# Altium integrated library ST Microcontroller 8-Bit.IntLib: 1326 symbols (part 4 of 45)
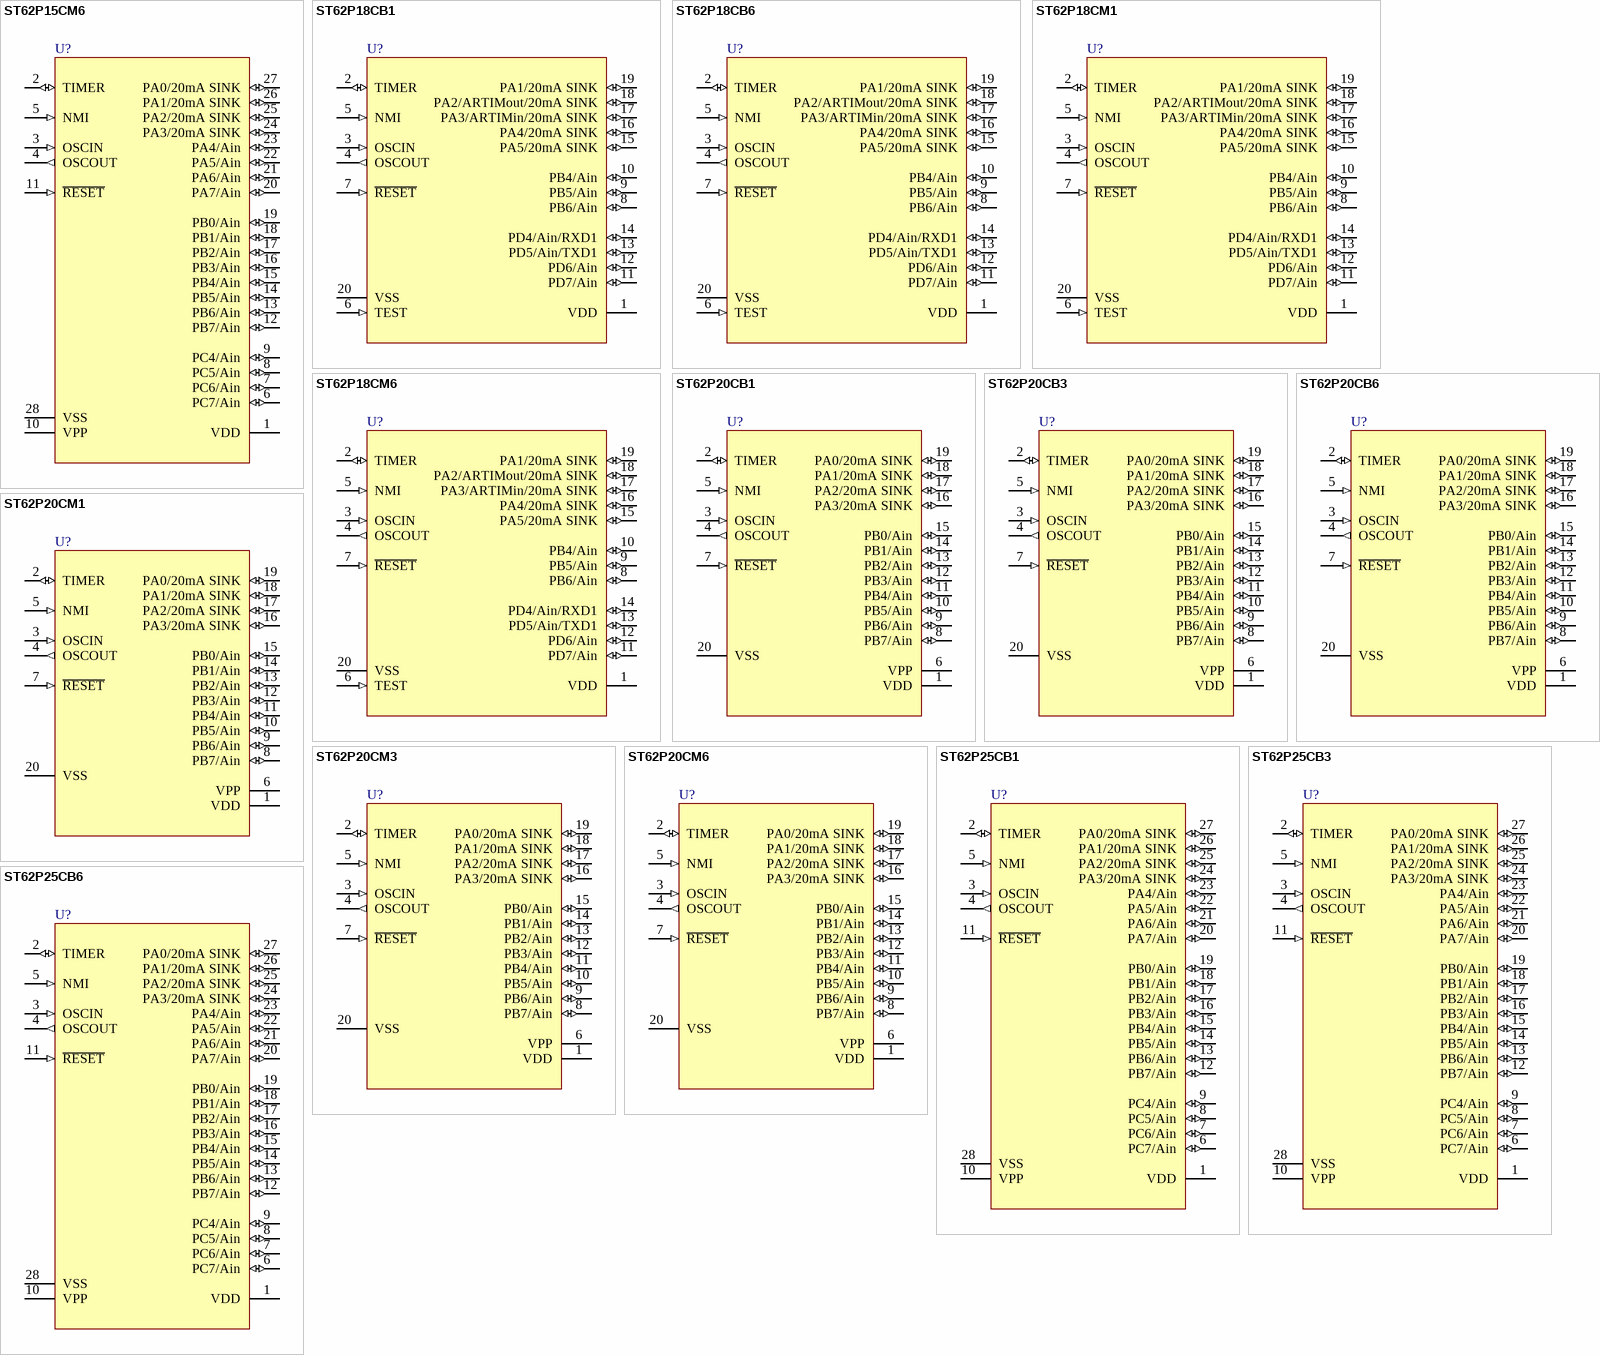
[diagram p170: symbols ST62P15CM6 to ST62P25CB6]

## ST62P20CB3
designator U?
8-Bit FASTROM MCU with A/D Converter, Two Timers, Oscillator Safeguard and Safe Reset, 20-Pin PDIP, Automotive; Published: 26-May-2004; LatestRevisionDate: 06-Jun-2005; LatestRevisionNote: Stylized 3D Model Added.; DatasheetVersion: rev3.3, Oct-2003; PackageVersion: Jul-2003; PackageReference: PDIP20; Publisher: Altium Limited; PackageDescription: DIP; 20 Leads; Row Spacing 7.62 mm; Pitch 2.54 mm; Code_JEDEC: MS-001-AD; ComponentLink1Description: Manufacturer Link; ComponentLink1URL: http://www.st.com/; ComponentLink2Description: Datasheet; ComponentLink2URL: http://www.st.com/stonline/products/literature/ds/2349/st6220c.pdf
footprint PDIP20 (DIP; 20 Leads; Row Spacing 7.62 mm; Pitch 2.54 mm)
3D model PDIP20 (DIP; 20 Leads; Row Spacing 7.62 mm; Pitch 2.54 mm)
pins: 1 VDD (power), 2 TIMER (io), 3 OSCIN (in), 4 OSCOUT (out), 5 NMI (in), 6 VPP (power), 7 ~{RESET} (in), 8 PB7/Ain (io), 9 PB6/Ain (io), 10 PB5/Ain (io), 11 PB4/Ain (io), 12 PB3/Ain (io), 13 PB2/Ain (io), 14 PB1/Ain (io), 15 PB0/Ain (io), 16 PA3/20mA SINK (io), 17 PA2/20mA SINK (io), 18 PA1/20mA SINK (io), 19 PA0/20mA SINK (io), 20 VSS (power)

## ST62P20CB6
designator U?
8-Bit FASTROM MCU with A/D Converter, Two Timers, Oscillator Safeguard and Safe Reset, 20-Pin PDIP, Industrial; Published: 26-May-2004; LatestRevisionDate: 06-Jun-2005; LatestRevisionNote: Stylized 3D Model Added.; DatasheetVersion: rev3.3, Oct-2003; PackageVersion: Jul-2003; PackageReference: PDIP20; Publisher: Altium Limited; PackageDescription: DIP; 20 Leads; Row Spacing 7.62 mm; Pitch 2.54 mm; Code_JEDEC: MS-001-AD; ComponentLink1Description: Manufacturer Link; ComponentLink1URL: http://www.st.com/; ComponentLink2Description: Datasheet; ComponentLink2URL: http://www.st.com/stonline/products/literature/ds/2349/st6220c.pdf
footprint PDIP20 (DIP; 20 Leads; Row Spacing 7.62 mm; Pitch 2.54 mm)
3D model PDIP20 (DIP; 20 Leads; Row Spacing 7.62 mm; Pitch 2.54 mm)
pins: 1 VDD (power), 2 TIMER (io), 3 OSCIN (in), 4 OSCOUT (out), 5 NMI (in), 6 VPP (power), 7 ~{RESET} (in), 8 PB7/Ain (io), 9 PB6/Ain (io), 10 PB5/Ain (io), 11 PB4/Ain (io), 12 PB3/Ain (io), 13 PB2/Ain (io), 14 PB1/Ain (io), 15 PB0/Ain (io), 16 PA3/20mA SINK (io), 17 PA2/20mA SINK (io), 18 PA1/20mA SINK (io), 19 PA0/20mA SINK (io), 20 VSS (power)

## ST62P20CM1
designator U?
8-Bit FASTROM MCU with A/D Converter, Two Timers, Oscillator Safeguard and Safe Reset, 20-Pin SOIC, Standard; Published: 26-May-2004; LatestRevisionDate: 13-Apr-2006; LatestRevisionNote: IPC-7351 Footprint Added.; DatasheetVersion: rev3.3, Oct-2003; PackageVersion: Jul-2001; PackageReference: SO20; Publisher: Altium Limited; PackageDescription: 20-Pin Plastic Small Outline Integrated Circuit 1.27 mm Pitch; Code_JEDEC: MS-013-AC; Code_IPC: SOIC127P1030-20; ComponentLink1Description: Manufacturer Link; ComponentLink1URL: http://www.st.com/; ComponentLink2Description: Datasheet; ComponentLink2URL: http://www.st.com/stonline/products/literature/ds/2349/st6220c.pdf
footprint SO20_N (SOIC, 20-Leads, Body 12.8x7.5mm, Pitch 1.27mm, IPC Medium Density)
footprint SO20_L (SOIC, 20-Leads, Body 12.8x7.5mm, Pitch 1.27mm, IPC High Density)
footprint SO20_M (SOIC, 20-Leads, Body 12.8x7.5mm, Pitch 1.27mm, IPC Low Density)
3D model SO20 (20-Pin Plastic Small Outline Integrated Circuit 1.27 mm Pitch)
pins: 1 VDD (power), 2 TIMER (io), 3 OSCIN (in), 4 OSCOUT (out), 5 NMI (in), 6 VPP (power), 7 ~{RESET} (in), 8 PB7/Ain (io), 9 PB6/Ain (io), 10 PB5/Ain (io), 11 PB4/Ain (io), 12 PB3/Ain (io), 13 PB2/Ain (io), 14 PB1/Ain (io), 15 PB0/Ain (io), 16 PA3/20mA SINK (io), 17 PA2/20mA SINK (io), 18 PA1/20mA SINK (io), 19 PA0/20mA SINK (io), 20 VSS (power)

## ST62P20CM3
designator U?
8-Bit FASTROM MCU with A/D Converter, Two Timers, Oscillator Safeguard and Safe Reset, 20-Pin SOIC, Automotive; Published: 26-May-2004; LatestRevisionDate: 13-Apr-2006; LatestRevisionNote: IPC-7351 Footprint Added.; DatasheetVersion: rev3.3, Oct-2003; PackageVersion: Jul-2001; PackageReference: SO20; Publisher: Altium Limited; PackageDescription: 20-Pin Plastic Small Outline Integrated Circuit 1.27 mm Pitch; Code_JEDEC: MS-013-AC; Code_IPC: SOIC127P1030-20; ComponentLink1Description: Manufacturer Link; ComponentLink1URL: http://www.st.com/; ComponentLink2Description: Datasheet; ComponentLink2URL: http://www.st.com/stonline/products/literature/ds/2349/st6220c.pdf
footprint SO20_N (SOIC, 20-Leads, Body 12.8x7.5mm, Pitch 1.27mm, IPC Medium Density)
footprint SO20_L (SOIC, 20-Leads, Body 12.8x7.5mm, Pitch 1.27mm, IPC High Density)
footprint SO20_M (SOIC, 20-Leads, Body 12.8x7.5mm, Pitch 1.27mm, IPC Low Density)
3D model SO20 (20-Pin Plastic Small Outline Integrated Circuit 1.27 mm Pitch)
pins: 1 VDD (power), 2 TIMER (io), 3 OSCIN (in), 4 OSCOUT (out), 5 NMI (in), 6 VPP (power), 7 ~{RESET} (in), 8 PB7/Ain (io), 9 PB6/Ain (io), 10 PB5/Ain (io), 11 PB4/Ain (io), 12 PB3/Ain (io), 13 PB2/Ain (io), 14 PB1/Ain (io), 15 PB0/Ain (io), 16 PA3/20mA SINK (io), 17 PA2/20mA SINK (io), 18 PA1/20mA SINK (io), 19 PA0/20mA SINK (io), 20 VSS (power)

## ST62P20CM6
designator U?
8-Bit FASTROM MCU with A/D Converter, Two Timers, Oscillator Safeguard and Safe Reset, 20-Pin SOIC, Industrial; Published: 26-May-2004; LatestRevisionDate: 13-Apr-2006; LatestRevisionNote: IPC-7351 Footprint Added.; DatasheetVersion: rev3.3, Oct-2003; PackageVersion: Jul-2001; PackageReference: SO20; Publisher: Altium Limited; PackageDescription: 20-Pin Plastic Small Outline Integrated Circuit 1.27 mm Pitch; Code_JEDEC: MS-013-AC; Code_IPC: SOIC127P1030-20; ComponentLink1Description: Manufacturer Link; ComponentLink1URL: http://www.st.com/; ComponentLink2Description: Datasheet; ComponentLink2URL: http://www.st.com/stonline/products/literature/ds/2349/st6220c.pdf
footprint SO20_N (SOIC, 20-Leads, Body 12.8x7.5mm, Pitch 1.27mm, IPC Medium Density)
footprint SO20_L (SOIC, 20-Leads, Body 12.8x7.5mm, Pitch 1.27mm, IPC High Density)
footprint SO20_M (SOIC, 20-Leads, Body 12.8x7.5mm, Pitch 1.27mm, IPC Low Density)
3D model SO20 (20-Pin Plastic Small Outline Integrated Circuit 1.27 mm Pitch)
pins: 1 VDD (power), 2 TIMER (io), 3 OSCIN (in), 4 OSCOUT (out), 5 NMI (in), 6 VPP (power), 7 ~{RESET} (in), 8 PB7/Ain (io), 9 PB6/Ain (io), 10 PB5/Ain (io), 11 PB4/Ain (io), 12 PB3/Ain (io), 13 PB2/Ain (io), 14 PB1/Ain (io), 15 PB0/Ain (io), 16 PA3/20mA SINK (io), 17 PA2/20mA SINK (io), 18 PA1/20mA SINK (io), 19 PA0/20mA SINK (io), 20 VSS (power)

## ST62P25CB1
designator U?
8-Bit FASTROM MCU with A/D Converter, Two Timers, Oscillator Safeguard and Safe Reset, 28-Pin PDIP, Standard; Published: 26-May-2004; LatestRevisionDate: 06-Jun-2005; LatestRevisionNote: Stylized 3D Model Added.; DatasheetVersion: rev3.3, Oct-2003; PackageVersion: Oct-2003; PackageReference: DIP28; Publisher: Altium Limited; PackageDescription: DIP; 28 Leads; Row Spacing 15.24 mm; Pitch 2.54 mm; Code_JEDEC: MS-011-AB; ComponentLink1Description: Manufacturer Link; ComponentLink1URL: http://www.st.com/; ComponentLink2Description: Datasheet; ComponentLink2URL: http://www.st.com/stonline/products/literature/ds/5266/st6225c.pdf
footprint DIP28 (DIP; 28 Leads; Row Spacing 15.24 mm; Pitch 2.54 mm)
3D model DIP28 (DIP; 28 Leads; Row Spacing 15.24 mm; Pitch 2.54 mm)
pins: 1 VDD (power), 2 TIMER (io), 3 OSCIN (in), 4 OSCOUT (out), 5 NMI (in), 6 PC7/Ain (io), 7 PC6/Ain (io), 8 PC5/Ain (io), 9 PC4/Ain (io), 10 VPP (power), 11 ~{RESET} (in), 12 PB7/Ain (io), 13 PB6/Ain (io), 14 PB5/Ain (io), 15 PB4/Ain (io), 16 PB3/Ain (io), 17 PB2/Ain (io), 18 PB1/Ain (io), 19 PB0/Ain (io), 20 PA7/Ain (io), 21 PA6/Ain (io), 22 PA5/Ain (io), 23 PA4/Ain (io), 24 PA3/20mA SINK (io), 25 PA2/20mA SINK (io), 26 PA1/20mA SINK (io), 27 PA0/20mA SINK (io), 28 VSS (power)

## ST62P25CB3
designator U?
8-Bit FASTROM MCU with A/D Converter, Two Timers, Oscillator Safeguard and Safe Reset, 28-Pin PDIP, Automotive; Published: 26-May-2004; LatestRevisionDate: 06-Jun-2005; LatestRevisionNote: Stylized 3D Model Added.; DatasheetVersion: rev3.3, Oct-2003; PackageVersion: Oct-2003; PackageReference: DIP28; Publisher: Altium Limited; PackageDescription: DIP; 28 Leads; Row Spacing 15.24 mm; Pitch 2.54 mm; Code_JEDEC: MS-011-AB; ComponentLink1Description: Manufacturer Link; ComponentLink1URL: http://www.st.com/; ComponentLink2Description: Datasheet; ComponentLink2URL: http://www.st.com/stonline/products/literature/ds/5266/st6225c.pdf
footprint DIP28 (DIP; 28 Leads; Row Spacing 15.24 mm; Pitch 2.54 mm)
3D model DIP28 (DIP; 28 Leads; Row Spacing 15.24 mm; Pitch 2.54 mm)
pins: 1 VDD (power), 2 TIMER (io), 3 OSCIN (in), 4 OSCOUT (out), 5 NMI (in), 6 PC7/Ain (io), 7 PC6/Ain (io), 8 PC5/Ain (io), 9 PC4/Ain (io), 10 VPP (power), 11 ~{RESET} (in), 12 PB7/Ain (io), 13 PB6/Ain (io), 14 PB5/Ain (io), 15 PB4/Ain (io), 16 PB3/Ain (io), 17 PB2/Ain (io), 18 PB1/Ain (io), 19 PB0/Ain (io), 20 PA7/Ain (io), 21 PA6/Ain (io), 22 PA5/Ain (io), 23 PA4/Ain (io), 24 PA3/20mA SINK (io), 25 PA2/20mA SINK (io), 26 PA1/20mA SINK (io), 27 PA0/20mA SINK (io), 28 VSS (power)

## ST62P25CB6
designator U?
8-Bit FASTROM MCU with A/D Converter, Two Timers, Oscillator Safeguard and Safe Reset, 28-Pin PDIP, Industrial; Published: 26-May-2004; LatestRevisionDate: 06-Jun-2005; LatestRevisionNote: Stylized 3D Model Added.; DatasheetVersion: rev3.3, Oct-2003; PackageVersion: Oct-2003; PackageReference: DIP28; Publisher: Altium Limited; PackageDescription: DIP; 28 Leads; Row Spacing 15.24 mm; Pitch 2.54 mm; Code_JEDEC: MS-011-AB; ComponentLink1Description: Manufacturer Link; ComponentLink1URL: http://www.st.com/; ComponentLink2Description: Datasheet; ComponentLink2URL: http://www.st.com/stonline/products/literature/ds/5266/st6225c.pdf
footprint DIP28 (DIP; 28 Leads; Row Spacing 15.24 mm; Pitch 2.54 mm)
3D model DIP28 (DIP; 28 Leads; Row Spacing 15.24 mm; Pitch 2.54 mm)
pins: 1 VDD (power), 2 TIMER (io), 3 OSCIN (in), 4 OSCOUT (out), 5 NMI (in), 6 PC7/Ain (io), 7 PC6/Ain (io), 8 PC5/Ain (io), 9 PC4/Ain (io), 10 VPP (power), 11 ~{RESET} (in), 12 PB7/Ain (io), 13 PB6/Ain (io), 14 PB5/Ain (io), 15 PB4/Ain (io), 16 PB3/Ain (io), 17 PB2/Ain (io), 18 PB1/Ain (io), 19 PB0/Ain (io), 20 PA7/Ain (io), 21 PA6/Ain (io), 22 PA5/Ain (io), 23 PA4/Ain (io), 24 PA3/20mA SINK (io), 25 PA2/20mA SINK (io), 26 PA1/20mA SINK (io), 27 PA0/20mA SINK (io), 28 VSS (power)

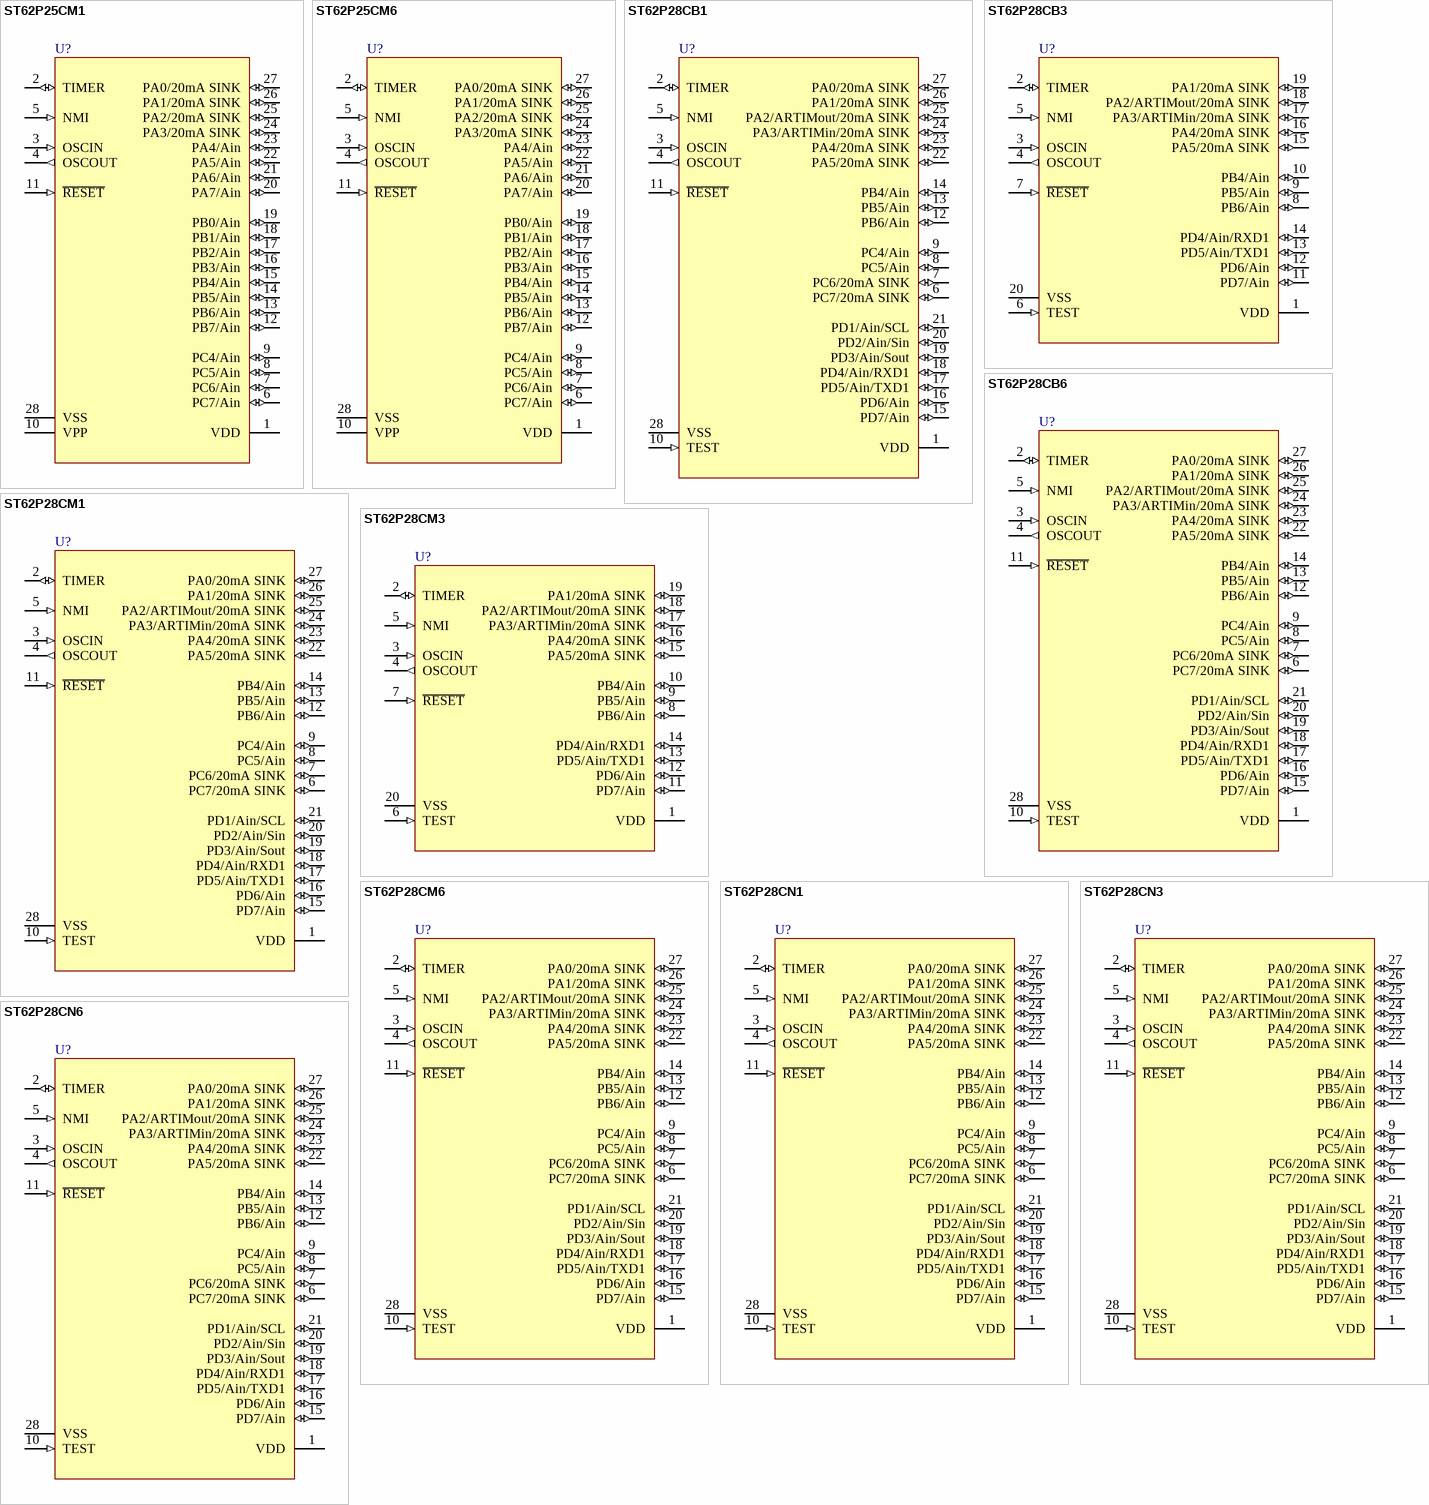
[diagram p9: symbols ST62P25CM1 to ST62P28CN6]

## ST62P25CM1
designator U?
8-Bit FASTROM MCU with A/D Converter, Two Timers, Oscillator Safeguard and Safe Reset, 28-Pin SOIC, Standard; Published: 26-May-2004; LatestRevisionDate: 13-Apr-2006; LatestRevisionNote: IPC-7351 Footprint Added.; DatasheetVersion: rev3.3, Oct-2003; PackageVersion: Jul-2001; PackageReference: SO28; Publisher: Altium Limited; PackageDescription: 28-Pin Plastic Small Outline Integrated Circuit 1.27 mm Pitch; ComponentLink1Description: Manufacturer Link; ComponentLink1URL: http://www.st.com/; ComponentLink2Description: Datasheet; ComponentLink2URL: http://www.st.com/stonline/products/literature/ds/5266/st6225c.pdf
footprint SO28_N (SOIC, 28-Leads, Body 17.9x7.5mm, Pitch 1.27mm, IPC Medium Density)
footprint SO28_L (SOIC, 28-Leads, Body 17.9x7.5mm, Pitch 1.27mm, IPC High Density)
footprint SO28_M (SOIC, 28-Leads, Body 17.9x7.5mm, Pitch 1.27mm, IPC Low Density)
3D model SO28 (28-Pin Plastic Small Outline Integrated Circuit 1.27 mm Pitch)
pins: 1 VDD (power), 2 TIMER (io), 3 OSCIN (in), 4 OSCOUT (out), 5 NMI (in), 6 PC7/Ain (io), 7 PC6/Ain (io), 8 PC5/Ain (io), 9 PC4/Ain (io), 10 VPP (power), 11 ~{RESET} (in), 12 PB7/Ain (io), 13 PB6/Ain (io), 14 PB5/Ain (io), 15 PB4/Ain (io), 16 PB3/Ain (io), 17 PB2/Ain (io), 18 PB1/Ain (io), 19 PB0/Ain (io), 20 PA7/Ain (io), 21 PA6/Ain (io), 22 PA5/Ain (io), 23 PA4/Ain (io), 24 PA3/20mA SINK (io), 25 PA2/20mA SINK (io), 26 PA1/20mA SINK (io), 27 PA0/20mA SINK (io), 28 VSS (power)

## ST62P25CM6
designator U?
8-Bit FASTROM MCU with A/D Converter, Two Timers, Oscillator Safeguard and Safe Reset, 28-Pin SOIC, Industrial; Published: 26-May-2004; LatestRevisionDate: 13-Apr-2006; LatestRevisionNote: IPC-7351 Footprint Added.; DatasheetVersion: rev3.3, Oct-2003; PackageVersion: Jul-2001; PackageReference: SO28; Publisher: Altium Limited; PackageDescription: 28-Pin Plastic Small Outline Integrated Circuit 1.27 mm Pitch; ComponentLink1Description: Manufacturer Link; ComponentLink1URL: http://www.st.com/; ComponentLink2Description: Datasheet; ComponentLink2URL: http://www.st.com/stonline/products/literature/ds/5266/st6225c.pdf
footprint SO28_N (SOIC, 28-Leads, Body 17.9x7.5mm, Pitch 1.27mm, IPC Medium Density)
footprint SO28_L (SOIC, 28-Leads, Body 17.9x7.5mm, Pitch 1.27mm, IPC High Density)
footprint SO28_M (SOIC, 28-Leads, Body 17.9x7.5mm, Pitch 1.27mm, IPC Low Density)
3D model SO28 (28-Pin Plastic Small Outline Integrated Circuit 1.27 mm Pitch)
pins: 1 VDD (power), 2 TIMER (io), 3 OSCIN (in), 4 OSCOUT (out), 5 NMI (in), 6 PC7/Ain (io), 7 PC6/Ain (io), 8 PC5/Ain (io), 9 PC4/Ain (io), 10 VPP (power), 11 ~{RESET} (in), 12 PB7/Ain (io), 13 PB6/Ain (io), 14 PB5/Ain (io), 15 PB4/Ain (io), 16 PB3/Ain (io), 17 PB2/Ain (io), 18 PB1/Ain (io), 19 PB0/Ain (io), 20 PA7/Ain (io), 21 PA6/Ain (io), 22 PA5/Ain (io), 23 PA4/Ain (io), 24 PA3/20mA SINK (io), 25 PA2/20mA SINK (io), 26 PA1/20mA SINK (io), 27 PA0/20mA SINK (io), 28 VSS (power)

## ST62P28CB1
designator U?
8-Bit ROM MCU with A/D Converter, Auto-Reload Timer, UART, OSG, Safe Reset , 28-Pin PDIP, Standard; Published: 26-May-2004; LatestRevisionDate: 06-Jun-2005; LatestRevisionNote: Stylized 3D Model Added.; DatasheetVersion: rev2.9, Jul-2001; PackageVersion: Oct-2003; PackageReference: DIP28; Publisher: Altium Limited; PackageDescription: DIP; 28 Leads; Row Spacing 15.24 mm; Pitch 2.54 mm; Code_JEDEC: MS-011-AB; ComponentLink1Description: Manufacturer Link; ComponentLink1URL: http://www.st.com/; ComponentLink2Description: Datasheet; ComponentLink2URL: http://www.st.com/stonline/products/literature/ds/5269/st6228c.pdf
footprint DIP28 (DIP; 28 Leads; Row Spacing 15.24 mm; Pitch 2.54 mm)
3D model DIP28 (DIP; 28 Leads; Row Spacing 15.24 mm; Pitch 2.54 mm)
pins: 1 VDD (power), 2 TIMER (io), 3 OSCIN (in), 4 OSCOUT (out), 5 NMI (in), 6 PC7/20mA SINK (io), 7 PC6/20mA SINK (io), 8 PC5/Ain (io), 9 PC4/Ain (io), 10 TEST (in), 11 ~{RESET} (in), 12 PB6/Ain (io), 13 PB5/Ain (io), 14 PB4/Ain (io), 15 PD7/Ain (io), 16 PD6/Ain (io), 17 PD5/Ain/TXD1 (io), 18 PD4/Ain/RXD1 (io), 19 PD3/Ain/Sout (io), 20 PD2/Ain/Sin (io), 21 PD1/Ain/SCL (io), 22 PA5/20mA SINK (io), 23 PA4/20mA SINK (io), 24 PA3/ARTIMin/20mA SINK (io), 25 PA2/ARTIMout/20mA SINK (io), 26 PA1/20mA SINK (io), 27 PA0/20mA SINK (io), 28 VSS (power)

## ST62P28CB3
designator U?
8-Bit FASTROM MCU with A/D Converter, Auto-Reload Timer, UART, OSG, Safe Reset, 20-Pin PDIP, Automotive; Published: 26-May-2004; LatestRevisionDate: 06-Jun-2005; LatestRevisionNote: Stylized 3D Model Added.; DatasheetVersion: rev2.6, Jul-2001; PackageVersion: Jul-2003; PackageReference: PDIP20; Publisher: Altium Limited; PackageDescription: DIP; 20 Leads; Row Spacing 7.62 mm; Pitch 2.54 mm; Code_JEDEC: MS-001-AD; ComponentLink1Description: Manufacturer Link; ComponentLink1URL: http://www.st.com/; ComponentLink2Description: Datasheet; ComponentLink2URL: http://www.st.com/stonline/products/literature/ds/5269/st6228c.pdf
footprint PDIP20 (DIP; 20 Leads; Row Spacing 7.62 mm; Pitch 2.54 mm)
3D model PDIP20 (DIP; 20 Leads; Row Spacing 7.62 mm; Pitch 2.54 mm)
pins: 1 VDD (power), 2 TIMER (io), 3 OSCIN (in), 4 OSCOUT (out), 5 NMI (in), 6 TEST (in), 7 ~{RESET} (in), 8 PB6/Ain (io), 9 PB5/Ain (io), 10 PB4/Ain (io), 11 PD7/Ain (io), 12 PD6/Ain (io), 13 PD5/Ain/TXD1 (io), 14 PD4/Ain/RXD1 (io), 15 PA5/20mA SINK (io), 16 PA4/20mA SINK (io), 17 PA3/ARTIMin/20mA SINK (io), 18 PA2/ARTIMout/20mA SINK (io), 19 PA1/20mA SINK (io), 20 VSS (power)

## ST62P28CB6
designator U?
8-Bit ROM MCU with A/D Converter, Auto-Reload Timer, UART, OSG, Safe Reset , 28-Pin PDIP, Industrial; Published: 26-May-2004; LatestRevisionDate: 06-Jun-2005; LatestRevisionNote: Stylized 3D Model Added.; DatasheetVersion: rev2.9, Jul-2001; PackageVersion: Oct-2003; PackageReference: DIP28; Publisher: Altium Limited; PackageDescription: DIP; 28 Leads; Row Spacing 15.24 mm; Pitch 2.54 mm; Code_JEDEC: MS-011-AB; ComponentLink1Description: Manufacturer Link; ComponentLink1URL: http://www.st.com/; ComponentLink2Description: Datasheet; ComponentLink2URL: http://www.st.com/stonline/products/literature/ds/5269/st6228c.pdf
footprint DIP28 (DIP; 28 Leads; Row Spacing 15.24 mm; Pitch 2.54 mm)
3D model DIP28 (DIP; 28 Leads; Row Spacing 15.24 mm; Pitch 2.54 mm)
pins: 1 VDD (power), 2 TIMER (io), 3 OSCIN (in), 4 OSCOUT (out), 5 NMI (in), 6 PC7/20mA SINK (io), 7 PC6/20mA SINK (io), 8 PC5/Ain (io), 9 PC4/Ain (io), 10 TEST (in), 11 ~{RESET} (in), 12 PB6/Ain (io), 13 PB5/Ain (io), 14 PB4/Ain (io), 15 PD7/Ain (io), 16 PD6/Ain (io), 17 PD5/Ain/TXD1 (io), 18 PD4/Ain/RXD1 (io), 19 PD3/Ain/Sout (io), 20 PD2/Ain/Sin (io), 21 PD1/Ain/SCL (io), 22 PA5/20mA SINK (io), 23 PA4/20mA SINK (io), 24 PA3/ARTIMin/20mA SINK (io), 25 PA2/ARTIMout/20mA SINK (io), 26 PA1/20mA SINK (io), 27 PA0/20mA SINK (io), 28 VSS (power)

## ST62P28CM1
designator U?
8-Bit ROM MCU with A/D Converter, Auto-Reload Timer, UART, OSG, Safe Reset , 28-Pin SOIC, Standard; Published: 26-May-2004; LatestRevisionDate: 13-Apr-2006; LatestRevisionNote: IPC-7351 Footprint Added.; DatasheetVersion: rev2.9, Jul-2001; PackageVersion: Jul-2001; PackageReference: SO28; Publisher: Altium Limited; PackageDescription: 28-Pin Plastic Small Outline Integrated Circuit 1.27 mm Pitch; ComponentLink1Description: Manufacturer Link; ComponentLink1URL: http://www.st.com/; ComponentLink2Description: Datasheet; ComponentLink2URL: http://www.st.com/stonline/products/literature/ds/5269/st6228c.pdf
footprint SO28_N (SOIC, 28-Leads, Body 17.9x7.5mm, Pitch 1.27mm, IPC Medium Density)
footprint SO28_L (SOIC, 28-Leads, Body 17.9x7.5mm, Pitch 1.27mm, IPC High Density)
footprint SO28_M (SOIC, 28-Leads, Body 17.9x7.5mm, Pitch 1.27mm, IPC Low Density)
3D model SO28 (28-Pin Plastic Small Outline Integrated Circuit 1.27 mm Pitch)
pins: 1 VDD (power), 2 TIMER (io), 3 OSCIN (in), 4 OSCOUT (out), 5 NMI (in), 6 PC7/20mA SINK (io), 7 PC6/20mA SINK (io), 8 PC5/Ain (io), 9 PC4/Ain (io), 10 TEST (in), 11 ~{RESET} (in), 12 PB6/Ain (io), 13 PB5/Ain (io), 14 PB4/Ain (io), 15 PD7/Ain (io), 16 PD6/Ain (io), 17 PD5/Ain/TXD1 (io), 18 PD4/Ain/RXD1 (io), 19 PD3/Ain/Sout (io), 20 PD2/Ain/Sin (io), 21 PD1/Ain/SCL (io), 22 PA5/20mA SINK (io), 23 PA4/20mA SINK (io), 24 PA3/ARTIMin/20mA SINK (io), 25 PA2/ARTIMout/20mA SINK (io), 26 PA1/20mA SINK (io), 27 PA0/20mA SINK (io), 28 VSS (power)

## ST62P28CM3
designator U?
8-Bit FASTROM MCU with A/D Converter, Auto-Reload Timer, UART, OSG, Safe Reset, 20-Pin SOIC, Automotive; Published: 26-May-2004; LatestRevisionDate: 13-Apr-2006; LatestRevisionNote: IPC-7351 Footprint Added.; DatasheetVersion: rev2.6, Jul-2001; PackageVersion: Jul-2001; PackageReference: SO20; Publisher: Altium Limited; PackageDescription: 20-Pin Plastic Small Outline Integrated Circuit 1.27 mm Pitch; Code_JEDEC: MS-013-AC; Code_IPC: SOIC127P1030-20; ComponentLink1Description: Manufacturer Link; ComponentLink1URL: http://www.st.com/; ComponentLink2Description: Datasheet; ComponentLink2URL: http://www.st.com/stonline/products/literature/ds/5269/st6228c.pdf
footprint SO20_N (SOIC, 20-Leads, Body 12.8x7.5mm, Pitch 1.27mm, IPC Medium Density)
footprint SO20_L (SOIC, 20-Leads, Body 12.8x7.5mm, Pitch 1.27mm, IPC High Density)
footprint SO20_M (SOIC, 20-Leads, Body 12.8x7.5mm, Pitch 1.27mm, IPC Low Density)
3D model SO20 (20-Pin Plastic Small Outline Integrated Circuit 1.27 mm Pitch)
pins: 1 VDD (power), 2 TIMER (io), 3 OSCIN (in), 4 OSCOUT (out), 5 NMI (in), 6 TEST (in), 7 ~{RESET} (in), 8 PB6/Ain (io), 9 PB5/Ain (io), 10 PB4/Ain (io), 11 PD7/Ain (io), 12 PD6/Ain (io), 13 PD5/Ain/TXD1 (io), 14 PD4/Ain/RXD1 (io), 15 PA5/20mA SINK (io), 16 PA4/20mA SINK (io), 17 PA3/ARTIMin/20mA SINK (io), 18 PA2/ARTIMout/20mA SINK (io), 19 PA1/20mA SINK (io), 20 VSS (power)

## ST62P28CM6
designator U?
8-Bit ROM MCU with A/D Converter, Auto-Reload Timer, UART, OSG, Safe Reset , 28-Pin SOIC, Industrial; Published: 26-May-2004; LatestRevisionDate: 13-Apr-2006; LatestRevisionNote: IPC-7351 Footprint Added.; DatasheetVersion: rev2.9, Jul-2001; PackageVersion: Jul-2001; PackageReference: SO28; Publisher: Altium Limited; PackageDescription: 28-Pin Plastic Small Outline Integrated Circuit 1.27 mm Pitch; ComponentLink1Description: Manufacturer Link; ComponentLink1URL: http://www.st.com/; ComponentLink2Description: Datasheet; ComponentLink2URL: http://www.st.com/stonline/products/literature/ds/5269/st6228c.pdf
footprint SO28_N (SOIC, 28-Leads, Body 17.9x7.5mm, Pitch 1.27mm, IPC Medium Density)
footprint SO28_L (SOIC, 28-Leads, Body 17.9x7.5mm, Pitch 1.27mm, IPC High Density)
footprint SO28_M (SOIC, 28-Leads, Body 17.9x7.5mm, Pitch 1.27mm, IPC Low Density)
3D model SO28 (28-Pin Plastic Small Outline Integrated Circuit 1.27 mm Pitch)
pins: 1 VDD (power), 2 TIMER (io), 3 OSCIN (in), 4 OSCOUT (out), 5 NMI (in), 6 PC7/20mA SINK (io), 7 PC6/20mA SINK (io), 8 PC5/Ain (io), 9 PC4/Ain (io), 10 TEST (in), 11 ~{RESET} (in), 12 PB6/Ain (io), 13 PB5/Ain (io), 14 PB4/Ain (io), 15 PD7/Ain (io), 16 PD6/Ain (io), 17 PD5/Ain/TXD1 (io), 18 PD4/Ain/RXD1 (io), 19 PD3/Ain/Sout (io), 20 PD2/Ain/Sin (io), 21 PD1/Ain/SCL (io), 22 PA5/20mA SINK (io), 23 PA4/20mA SINK (io), 24 PA3/ARTIMin/20mA SINK (io), 25 PA2/ARTIMout/20mA SINK (io), 26 PA1/20mA SINK (io), 27 PA0/20mA SINK (io), 28 VSS (power)

## ST62P28CN1
designator U?
8-Bit ROM MCU with A/D Converter, Auto-Reload Timer, UART, OSG, Safe Reset , 28-Pin SSOP, Standard; Published: 26-May-2004; LatestRevisionDate: 06-Jun-2005; LatestRevisionNote: Stylized 3D Model Added.; DatasheetVersion: rev2.9, Jul-2001; PackageVersion: Jul-2001; PackageReference: SSOP28W; Publisher: Altium Limited; PackageDescription: SSOP, Plastic; 28 Leads; Body Width 5.3 mm; Pitch 0.65 mm; ComponentLink1Description: Manufacturer Link; ComponentLink1URL: http://www.st.com/; ComponentLink2Description: Datasheet; ComponentLink2URL: http://www.st.com/stonline/products/literature/ds/5269/st6228c.pdf
footprint SSOP28W (SSOP, Plastic; 28 Leads; Body Width 5.3 mm; Pitch 0.65 mm)
3D model SSOP28W (SSOP, Plastic; 28 Leads; Body Width 5.3 mm; Pitch 0.65 mm)
pins: 1 VDD (power), 2 TIMER (io), 3 OSCIN (in), 4 OSCOUT (out), 5 NMI (in), 6 PC7/20mA SINK (io), 7 PC6/20mA SINK (io), 8 PC5/Ain (io), 9 PC4/Ain (io), 10 TEST (in), 11 ~{RESET} (in), 12 PB6/Ain (io), 13 PB5/Ain (io), 14 PB4/Ain (io), 15 PD7/Ain (io), 16 PD6/Ain (io), 17 PD5/Ain/TXD1 (io), 18 PD4/Ain/RXD1 (io), 19 PD3/Ain/Sout (io), 20 PD2/Ain/Sin (io), 21 PD1/Ain/SCL (io), 22 PA5/20mA SINK (io), 23 PA4/20mA SINK (io), 24 PA3/ARTIMin/20mA SINK (io), 25 PA2/ARTIMout/20mA SINK (io), 26 PA1/20mA SINK (io), 27 PA0/20mA SINK (io), 28 VSS (power)

## ST62P28CN3
designator U?
8-Bit ROM MCU with A/D Converter, Auto-Reload Timer, UART, OSG, Safe Reset , 28-Pin SSOP, Automotive; Published: 26-May-2004; LatestRevisionDate: 06-Jun-2005; LatestRevisionNote: Stylized 3D Model Added.; DatasheetVersion: rev2.9, Jul-2001; PackageVersion: Jul-2001; PackageReference: SSOP28W; Publisher: Altium Limited; PackageDescription: SSOP, Plastic; 28 Leads; Body Width 5.3 mm; Pitch 0.65 mm; ComponentLink1Description: Manufacturer Link; ComponentLink1URL: http://www.st.com/; ComponentLink2Description: Datasheet; ComponentLink2URL: http://www.st.com/stonline/products/literature/ds/5269/st6228c.pdf
footprint SSOP28W (SSOP, Plastic; 28 Leads; Body Width 5.3 mm; Pitch 0.65 mm)
3D model SSOP28W (SSOP, Plastic; 28 Leads; Body Width 5.3 mm; Pitch 0.65 mm)
pins: 1 VDD (power), 2 TIMER (io), 3 OSCIN (in), 4 OSCOUT (out), 5 NMI (in), 6 PC7/20mA SINK (io), 7 PC6/20mA SINK (io), 8 PC5/Ain (io), 9 PC4/Ain (io), 10 TEST (in), 11 ~{RESET} (in), 12 PB6/Ain (io), 13 PB5/Ain (io), 14 PB4/Ain (io), 15 PD7/Ain (io), 16 PD6/Ain (io), 17 PD5/Ain/TXD1 (io), 18 PD4/Ain/RXD1 (io), 19 PD3/Ain/Sout (io), 20 PD2/Ain/Sin (io), 21 PD1/Ain/SCL (io), 22 PA5/20mA SINK (io), 23 PA4/20mA SINK (io), 24 PA3/ARTIMin/20mA SINK (io), 25 PA2/ARTIMout/20mA SINK (io), 26 PA1/20mA SINK (io), 27 PA0/20mA SINK (io), 28 VSS (power)

## ST62P28CN6
designator U?
8-Bit ROM MCU with A/D Converter, Auto-Reload Timer, UART, OSG, Safe Reset , 28-Pin SSOP, Industrial; Published: 26-May-2004; LatestRevisionDate: 06-Jun-2005; LatestRevisionNote: Stylized 3D Model Added.; DatasheetVersion: rev2.9, Jul-2001; PackageVersion: Jul-2001; PackageReference: SSOP28W; Publisher: Altium Limited; PackageDescription: SSOP, Plastic; 28 Leads; Body Width 5.3 mm; Pitch 0.65 mm; ComponentLink1Description: Manufacturer Link; ComponentLink1URL: http://www.st.com/; ComponentLink2Description: Datasheet; ComponentLink2URL: http://www.st.com/stonline/products/literature/ds/5269/st6228c.pdf
footprint SSOP28W (SSOP, Plastic; 28 Leads; Body Width 5.3 mm; Pitch 0.65 mm)
3D model SSOP28W (SSOP, Plastic; 28 Leads; Body Width 5.3 mm; Pitch 0.65 mm)
pins: 1 VDD (power), 2 TIMER (io), 3 OSCIN (in), 4 OSCOUT (out), 5 NMI (in), 6 PC7/20mA SINK (io), 7 PC6/20mA SINK (io), 8 PC5/Ain (io), 9 PC4/Ain (io), 10 TEST (in), 11 ~{RESET} (in), 12 PB6/Ain (io), 13 PB5/Ain (io), 14 PB4/Ain (io), 15 PD7/Ain (io), 16 PD6/Ain (io), 17 PD5/Ain/TXD1 (io), 18 PD4/Ain/RXD1 (io), 19 PD3/Ain/Sout (io), 20 PD2/Ain/Sin (io), 21 PD1/Ain/SCL (io), 22 PA5/20mA SINK (io), 23 PA4/20mA SINK (io), 24 PA3/ARTIMin/20mA SINK (io), 25 PA2/ARTIMout/20mA SINK (io), 26 PA1/20mA SINK (io), 27 PA0/20mA SINK (io), 28 VSS (power)

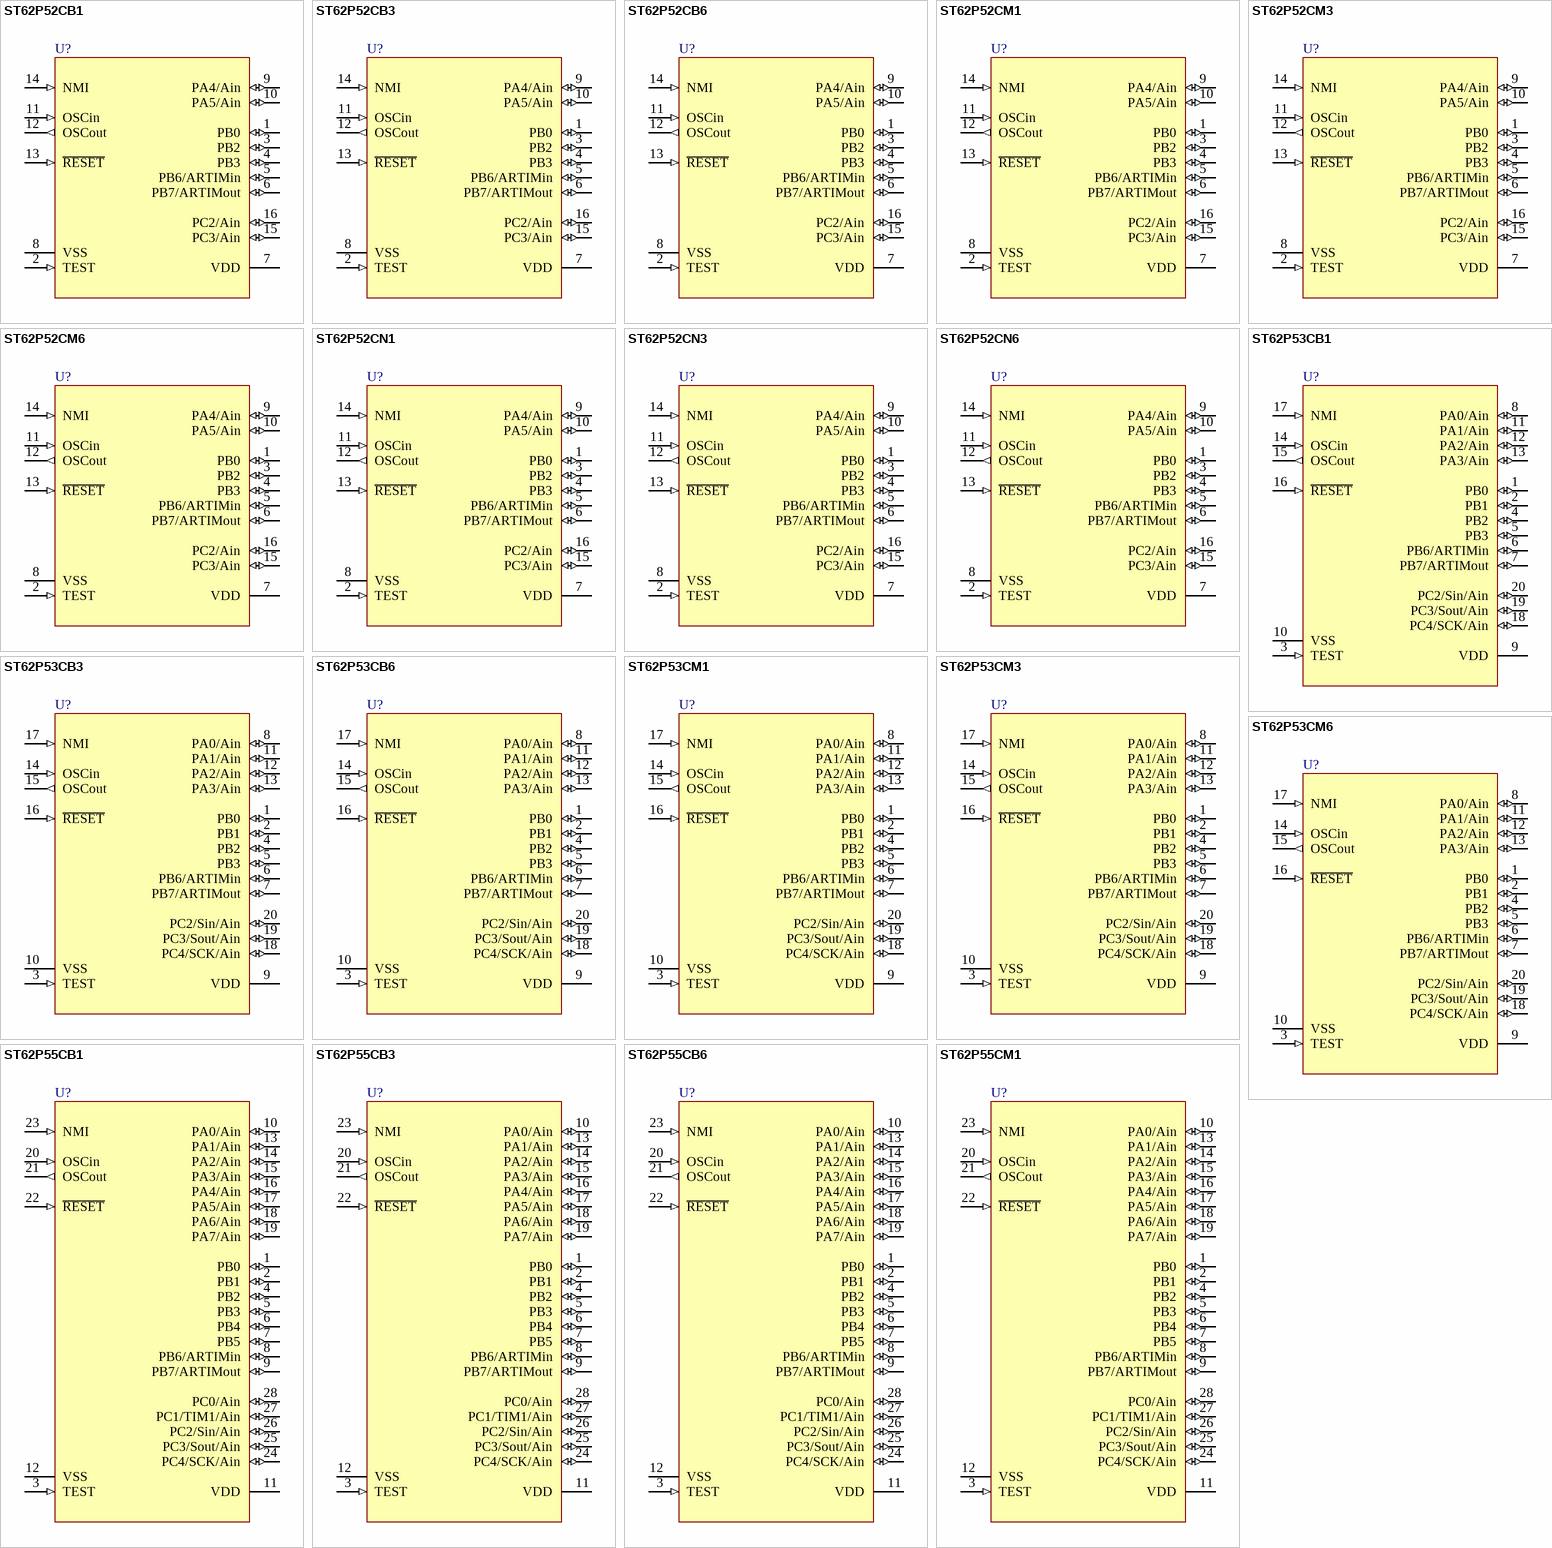
[diagram p10: symbols ST62P52CB1 to ST62P55CM1]

## ST62P52CB1
designator U?
8-Bit FASTROM MCU with A/D Converter, Safe Reset, Auto-Reload Timer and EEPROM, 16-Pin PDIP, Standard; Note: Pins 3 to 5 can also sink 20mA for direct LED or TRIAC drive.; Published: 26-May-2004; LatestRevisionDate: 06-Jun-2005; LatestRevisionNote: Stylized 3D Model Added.; DatasheetVersion: rev3.0, Feb-2002; PackageVersion: Dec-2003; PackageReference: PDIP16; Publisher: Altium Limited; PackageDescription: DIP; 16 Leads; Row Spacing 7.62 mm; Pitch 2.54 mm; ComponentLink1Description: Manufacturer Link; ComponentLink1URL: http://www.st.com/; ComponentLink2Description: Datasheet; ComponentLink2URL: http://www.st.com/stonline/products/literature/ds/6217/st6252c.pdf
footprint PDIP16 (DIP; 16 Leads; Row Spacing 7.62 mm; Pitch 2.54 mm)
3D model PDIP16 (DIP; 16 Leads; Row Spacing 7.62 mm; Pitch 2.54 mm)
pins: 1 PB0 (io), 2 TEST (in), 3 PB2 (io), 4 PB3 (io), 5 PB6/ARTIMin (io), 6 PB7/ARTIMout (io), 7 VDD (power), 8 VSS (power), 9 PA4/Ain (io), 10 PA5/Ain (io), 11 OSCin (in), 12 OSCout (out), 13 ~{RESET} (in), 14 NMI (in), 15 PC3/Ain (io), 16 PC2/Ain (io)

## ST62P52CB3
designator U?
8-Bit FASTROM MCU with A/D Converter, Safe Reset, Auto-Reload Timer and EEPROM, 16-Pin PDIP, Automotive; Note: Pins 3 to 5 can also sink 20mA for direct LED or TRIAC drive.; Published: 26-May-2004; LatestRevisionDate: 06-Jun-2005; LatestRevisionNote: Stylized 3D Model Added.; DatasheetVersion: rev3.0, Feb-2002; PackageVersion: Dec-2003; PackageReference: PDIP16; Publisher: Altium Limited; PackageDescription: DIP; 16 Leads; Row Spacing 7.62 mm; Pitch 2.54 mm; ComponentLink1Description: Manufacturer Link; ComponentLink1URL: http://www.st.com/; ComponentLink2Description: Datasheet; ComponentLink2URL: http://www.st.com/stonline/products/literature/ds/6217/st6252c.pdf
footprint PDIP16 (DIP; 16 Leads; Row Spacing 7.62 mm; Pitch 2.54 mm)
3D model PDIP16 (DIP; 16 Leads; Row Spacing 7.62 mm; Pitch 2.54 mm)
pins: 1 PB0 (io), 2 TEST (in), 3 PB2 (io), 4 PB3 (io), 5 PB6/ARTIMin (io), 6 PB7/ARTIMout (io), 7 VDD (power), 8 VSS (power), 9 PA4/Ain (io), 10 PA5/Ain (io), 11 OSCin (in), 12 OSCout (out), 13 ~{RESET} (in), 14 NMI (in), 15 PC3/Ain (io), 16 PC2/Ain (io)

## ST62P52CB6
designator U?
8-Bit FASTROM MCU with A/D Converter, Safe Reset, Auto-Reload Timer and EEPROM, 16-Pin PDIP, Industrial; Note: Pins 3 to 5 can also sink 20mA for direct LED or TRIAC drive.; Published: 26-May-2004; LatestRevisionDate: 06-Jun-2005; LatestRevisionNote: Stylized 3D Model Added.; DatasheetVersion: rev3.0, Feb-2002; PackageVersion: Dec-2003; PackageReference: PDIP16; Publisher: Altium Limited; PackageDescription: DIP; 16 Leads; Row Spacing 7.62 mm; Pitch 2.54 mm; ComponentLink1Description: Manufacturer Link; ComponentLink1URL: http://www.st.com/; ComponentLink2Description: Datasheet; ComponentLink2URL: http://www.st.com/stonline/products/literature/ds/6217/st6252c.pdf
footprint PDIP16 (DIP; 16 Leads; Row Spacing 7.62 mm; Pitch 2.54 mm)
3D model PDIP16 (DIP; 16 Leads; Row Spacing 7.62 mm; Pitch 2.54 mm)
pins: 1 PB0 (io), 2 TEST (in), 3 PB2 (io), 4 PB3 (io), 5 PB6/ARTIMin (io), 6 PB7/ARTIMout (io), 7 VDD (power), 8 VSS (power), 9 PA4/Ain (io), 10 PA5/Ain (io), 11 OSCin (in), 12 OSCout (out), 13 ~{RESET} (in), 14 NMI (in), 15 PC3/Ain (io), 16 PC2/Ain (io)

## ST62P52CM1
designator U?
8-Bit FASTROM MCU with A/D Converter, Safe Reset, Auto-Reload Timer and EEPROM, 16-Pin SOIC, Standard; Note: Pins 3 to 5 can also sink 20mA for direct LED or TRIAC drive.; Published: 26-May-2004; LatestRevisionDate: 13-Apr-2006; LatestRevisionNote: IPC-7351 Footprint Added.; DatasheetVersion: rev3.0, Feb-2002; PackageVersion: Apr-1998; PackageReference: SO16W; Publisher: Altium Limited; PackageDescription: 16-Pin Small Outline Integrated Circuit 1.27 mm Pitch; Code_JEDEC: MS-013-AA; Code_IPC: SOIC127P1030-16; ComponentLink1Description: Manufacturer Link; ComponentLink1URL: http://www.st.com/; ComponentLink2Description: Datasheet; ComponentLink2URL: http://www.st.com/stonline/products/literature/ds/6217/st6252c.pdf
footprint SO16W_N (SOIC, 16-Leads, Body 10.3x7.5mm, Pitch 1.27mm, IPC Medium Density)
footprint SO16W_L (SOIC, 16-Leads, Body 10.3x7.5mm, Pitch 1.27mm, IPC High Density)
footprint SO16W_M (SOIC, 16-Leads, Body 10.3x7.5mm, Pitch 1.27mm, IPC Low Density)
3D model SO16W (16-Pin Small Outline Integrated Circuit 1.27 mm Pitch)
pins: 1 PB0 (io), 2 TEST (in), 3 PB2 (io), 4 PB3 (io), 5 PB6/ARTIMin (io), 6 PB7/ARTIMout (io), 7 VDD (power), 8 VSS (power), 9 PA4/Ain (io), 10 PA5/Ain (io), 11 OSCin (in), 12 OSCout (out), 13 ~{RESET} (in), 14 NMI (in), 15 PC3/Ain (io), 16 PC2/Ain (io)

## ST62P52CM3
designator U?
8-Bit FASTROM MCU with A/D Converter, Safe Reset, Auto-Reload Timer and EEPROM, 16-Pin SOIC, Automotive; Note: Pins 3 to 5 can also sink 20mA for direct LED or TRIAC drive.; Published: 26-May-2004; LatestRevisionDate: 13-Apr-2006; LatestRevisionNote: IPC-7351 Footprint Added.; DatasheetVersion: rev3.0, Feb-2002; PackageVersion: Apr-1998; PackageReference: SO16W; Publisher: Altium Limited; PackageDescription: 16-Pin Small Outline Integrated Circuit 1.27 mm Pitch; Code_JEDEC: MS-013-AA; Code_IPC: SOIC127P1030-16; ComponentLink1Description: Manufacturer Link; ComponentLink1URL: http://www.st.com/; ComponentLink2Description: Datasheet; ComponentLink2URL: http://www.st.com/stonline/products/literature/ds/6217/st6252c.pdf
footprint SO16W_N (SOIC, 16-Leads, Body 10.3x7.5mm, Pitch 1.27mm, IPC Medium Density)
footprint SO16W_L (SOIC, 16-Leads, Body 10.3x7.5mm, Pitch 1.27mm, IPC High Density)
footprint SO16W_M (SOIC, 16-Leads, Body 10.3x7.5mm, Pitch 1.27mm, IPC Low Density)
3D model SO16W (16-Pin Small Outline Integrated Circuit 1.27 mm Pitch)
pins: 1 PB0 (io), 2 TEST (in), 3 PB2 (io), 4 PB3 (io), 5 PB6/ARTIMin (io), 6 PB7/ARTIMout (io), 7 VDD (power), 8 VSS (power), 9 PA4/Ain (io), 10 PA5/Ain (io), 11 OSCin (in), 12 OSCout (out), 13 ~{RESET} (in), 14 NMI (in), 15 PC3/Ain (io), 16 PC2/Ain (io)

## ST62P52CM6
designator U?
8-Bit FASTROM MCU with A/D Converter, Safe Reset, Auto-Reload Timer and EEPROM, 16-Pin SOIC, Industrial; Note: Pins 3 to 5 can also sink 20mA for direct LED or TRIAC drive.; Published: 26-May-2004; LatestRevisionDate: 13-Apr-2006; LatestRevisionNote: IPC-7351 Footprint Added.; DatasheetVersion: rev3.0, Feb-2002; PackageVersion: Apr-1998; PackageReference: SO16W; Publisher: Altium Limited; PackageDescription: 16-Pin Small Outline Integrated Circuit 1.27 mm Pitch; Code_JEDEC: MS-013-AA; Code_IPC: SOIC127P1030-16; ComponentLink1Description: Manufacturer Link; ComponentLink1URL: http://www.st.com/; ComponentLink2Description: Datasheet; ComponentLink2URL: http://www.st.com/stonline/products/literature/ds/6217/st6252c.pdf
footprint SO16W_N (SOIC, 16-Leads, Body 10.3x7.5mm, Pitch 1.27mm, IPC Medium Density)
footprint SO16W_L (SOIC, 16-Leads, Body 10.3x7.5mm, Pitch 1.27mm, IPC High Density)
footprint SO16W_M (SOIC, 16-Leads, Body 10.3x7.5mm, Pitch 1.27mm, IPC Low Density)
3D model SO16W (16-Pin Small Outline Integrated Circuit 1.27 mm Pitch)
pins: 1 PB0 (io), 2 TEST (in), 3 PB2 (io), 4 PB3 (io), 5 PB6/ARTIMin (io), 6 PB7/ARTIMout (io), 7 VDD (power), 8 VSS (power), 9 PA4/Ain (io), 10 PA5/Ain (io), 11 OSCin (in), 12 OSCout (out), 13 ~{RESET} (in), 14 NMI (in), 15 PC3/Ain (io), 16 PC2/Ain (io)

## ST62P52CN1
designator U?
8-Bit FASTROM MCU with A/D Converter, Safe Reset, Auto-Reload Timer and EEPROM, 16-Pin SSOP, Standard; Note: Pins 3 to 5 can also sink 20mA for direct LED or TRIAC drive.; Published: 26-May-2004; LatestRevisionDate: 06-Jun-2005; LatestRevisionNote: Stylized 3D Model Added.; DatasheetVersion: rev3.0, Feb-2002; PackageVersion: Oct-2003; PackageReference: SSOP16; Publisher: Altium Limited; PackageDescription: SSOP, Plastic; 16 Leads; Body Width 5.3 mm; Pitch 0.65 mm; ComponentLink1Description: Manufacturer Link; ComponentLink1URL: http://www.st.com/; ComponentLink2Description: Datasheet; ComponentLink2URL: http://www.st.com/stonline/products/literature/ds/6217/st6252c.pdf
footprint SSOP16 (SSOP, Plastic; 16 Leads; Body Width 5.3 mm; Pitch 0.65 mm)
3D model SSOP16 (SSOP, Plastic; 16 Leads; Body Width 5.3 mm; Pitch 0.65 mm)
pins: 1 PB0 (io), 2 TEST (in), 3 PB2 (io), 4 PB3 (io), 5 PB6/ARTIMin (io), 6 PB7/ARTIMout (io), 7 VDD (power), 8 VSS (power), 9 PA4/Ain (io), 10 PA5/Ain (io), 11 OSCin (in), 12 OSCout (out), 13 ~{RESET} (in), 14 NMI (in), 15 PC3/Ain (io), 16 PC2/Ain (io)

## ST62P52CN3
designator U?
8-Bit FASTROM MCU with A/D Converter, Safe Reset, Auto-Reload Timer and EEPROM, 16-Pin SSOP, Automotive; Note: Pins 3 to 5 can also sink 20mA for direct LED or TRIAC drive.; Published: 26-May-2004; LatestRevisionDate: 06-Jun-2005; LatestRevisionNote: Stylized 3D Model Added.; DatasheetVersion: rev3.0, Feb-2002; PackageVersion: Oct-2003; PackageReference: SSOP16; Publisher: Altium Limited; PackageDescription: SSOP, Plastic; 16 Leads; Body Width 5.3 mm; Pitch 0.65 mm; ComponentLink1Description: Manufacturer Link; ComponentLink1URL: http://www.st.com/; ComponentLink2Description: Datasheet; ComponentLink2URL: http://www.st.com/stonline/products/literature/ds/6217/st6252c.pdf
footprint SSOP16 (SSOP, Plastic; 16 Leads; Body Width 5.3 mm; Pitch 0.65 mm)
3D model SSOP16 (SSOP, Plastic; 16 Leads; Body Width 5.3 mm; Pitch 0.65 mm)
pins: 1 PB0 (io), 2 TEST (in), 3 PB2 (io), 4 PB3 (io), 5 PB6/ARTIMin (io), 6 PB7/ARTIMout (io), 7 VDD (power), 8 VSS (power), 9 PA4/Ain (io), 10 PA5/Ain (io), 11 OSCin (in), 12 OSCout (out), 13 ~{RESET} (in), 14 NMI (in), 15 PC3/Ain (io), 16 PC2/Ain (io)

## ST62P52CN6
designator U?
8-Bit FASTROM MCU with A/D Converter, Safe Reset, Auto-Reload Timer and EEPROM, 16-Pin SSOP, Industrial; Note: Pins 3 to 5 can also sink 20mA for direct LED or TRIAC drive.; Published: 26-May-2004; LatestRevisionDate: 06-Jun-2005; LatestRevisionNote: Stylized 3D Model Added.; DatasheetVersion: rev3.0, Feb-2002; PackageVersion: Oct-2003; PackageReference: SSOP16; Publisher: Altium Limited; PackageDescription: SSOP, Plastic; 16 Leads; Body Width 5.3 mm; Pitch 0.65 mm; ComponentLink1Description: Manufacturer Link; ComponentLink1URL: http://www.st.com/; ComponentLink2Description: Datasheet; ComponentLink2URL: http://www.st.com/stonline/products/literature/ds/6217/st6252c.pdf
footprint SSOP16 (SSOP, Plastic; 16 Leads; Body Width 5.3 mm; Pitch 0.65 mm)
3D model SSOP16 (SSOP, Plastic; 16 Leads; Body Width 5.3 mm; Pitch 0.65 mm)
pins: 1 PB0 (io), 2 TEST (in), 3 PB2 (io), 4 PB3 (io), 5 PB6/ARTIMin (io), 6 PB7/ARTIMout (io), 7 VDD (power), 8 VSS (power), 9 PA4/Ain (io), 10 PA5/Ain (io), 11 OSCin (in), 12 OSCout (out), 13 ~{RESET} (in), 14 NMI (in), 15 PC3/Ain (io), 16 PC2/Ain (io)

## ST62P53CB1
designator U?
8-Bit FASTROM MCU with A/D Converter, Safe Reset, Auto-Reload Timer, EEPROM and SPI, 20-Pin PDIP, Standard; Note: Pins 1, 2, 4 and 5 can also sink 30mA for direct LED or TRIAC drive.; Published: 26-May-2004; LatestRevisionDate: 06-Jun-2005; LatestRevisionNote: Stylized 3D Model Added.; DatasheetVersion: rev2.8, Jul-2001; PackageVersion: Jul-2003; PackageReference: PDIP20; Publisher: Altium Limited; PackageDescription: DIP; 20 Leads; Row Spacing 7.62 mm; Pitch 2.54 mm; Code_JEDEC: MS-001-AD; ComponentLink1Description: Manufacturer Link; ComponentLink1URL: http://www.st.com/; ComponentLink2Description: Datasheet; ComponentLink2URL: http://www.st.com/stonline/products/literature/ds/6215/st6253c.pdf
footprint PDIP20 (DIP; 20 Leads; Row Spacing 7.62 mm; Pitch 2.54 mm)
3D model PDIP20 (DIP; 20 Leads; Row Spacing 7.62 mm; Pitch 2.54 mm)
pins: 1 PB0 (io), 2 PB1 (io), 3 TEST (in), 4 PB2 (io), 5 PB3 (io), 6 PB6/ARTIMin (io), 7 PB7/ARTIMout (io), 8 PA0/Ain (io), 9 VDD (power), 10 VSS (power), 11 PA1/Ain (io), 12 PA2/Ain (io), 13 PA3/Ain (io), 14 OSCin (in), 15 OSCout (out), 16 ~{RESET} (in), 17 NMI (in), 18 PC4/SCK/Ain (io), 19 PC3/Sout/Ain (io), 20 PC2/Sin/Ain (io)

## ST62P53CB3
designator U?
8-Bit FASTROM MCU with A/D Converter, Safe Reset, Auto-Reload Timer, EEPROM and SPI, 20-Pin PDIP, Automotive; Note: Pins 1, 2, 4 and 5 can also sink 30mA for direct LED or TRIAC drive.; Published: 26-May-2004; LatestRevisionDate: 06-Jun-2005; LatestRevisionNote: Stylized 3D Model Added.; DatasheetVersion: rev2.8, Jul-2001; PackageVersion: Jul-2003; PackageReference: PDIP20; Publisher: Altium Limited; PackageDescription: DIP; 20 Leads; Row Spacing 7.62 mm; Pitch 2.54 mm; Code_JEDEC: MS-001-AD; ComponentLink1Description: Manufacturer Link; ComponentLink1URL: http://www.st.com/; ComponentLink2Description: Datasheet; ComponentLink2URL: http://www.st.com/stonline/products/literature/ds/6215/st6253c.pdf
footprint PDIP20 (DIP; 20 Leads; Row Spacing 7.62 mm; Pitch 2.54 mm)
3D model PDIP20 (DIP; 20 Leads; Row Spacing 7.62 mm; Pitch 2.54 mm)
pins: 1 PB0 (io), 2 PB1 (io), 3 TEST (in), 4 PB2 (io), 5 PB3 (io), 6 PB6/ARTIMin (io), 7 PB7/ARTIMout (io), 8 PA0/Ain (io), 9 VDD (power), 10 VSS (power), 11 PA1/Ain (io), 12 PA2/Ain (io), 13 PA3/Ain (io), 14 OSCin (in), 15 OSCout (out), 16 ~{RESET} (in), 17 NMI (in), 18 PC4/SCK/Ain (io), 19 PC3/Sout/Ain (io), 20 PC2/Sin/Ain (io)

## ST62P53CB6
designator U?
8-Bit FASTROM MCU with A/D Converter, Safe Reset, Auto-Reload Timer, EEPROM and SPI, 20-Pin PDIP, Industrial; Note: Pins 1, 2, 4 and 5 can also sink 30mA for direct LED or TRIAC drive.; Published: 26-May-2004; LatestRevisionDate: 06-Jun-2005; LatestRevisionNote: Stylized 3D Model Added.; DatasheetVersion: rev2.8, Jul-2001; PackageVersion: Jul-2003; PackageReference: PDIP20; Publisher: Altium Limited; PackageDescription: DIP; 20 Leads; Row Spacing 7.62 mm; Pitch 2.54 mm; Code_JEDEC: MS-001-AD; ComponentLink1Description: Manufacturer Link; ComponentLink1URL: http://www.st.com/; ComponentLink2Description: Datasheet; ComponentLink2URL: http://www.st.com/stonline/products/literature/ds/6215/st6253c.pdf
footprint PDIP20 (DIP; 20 Leads; Row Spacing 7.62 mm; Pitch 2.54 mm)
3D model PDIP20 (DIP; 20 Leads; Row Spacing 7.62 mm; Pitch 2.54 mm)
pins: 1 PB0 (io), 2 PB1 (io), 3 TEST (in), 4 PB2 (io), 5 PB3 (io), 6 PB6/ARTIMin (io), 7 PB7/ARTIMout (io), 8 PA0/Ain (io), 9 VDD (power), 10 VSS (power), 11 PA1/Ain (io), 12 PA2/Ain (io), 13 PA3/Ain (io), 14 OSCin (in), 15 OSCout (out), 16 ~{RESET} (in), 17 NMI (in), 18 PC4/SCK/Ain (io), 19 PC3/Sout/Ain (io), 20 PC2/Sin/Ain (io)

## ST62P53CM1
designator U?
8-Bit FASTROM MCU with A/D Converter, Safe Reset, Auto-Reload Timer, EEPROM and SPI, 20-Pin SOIC, Standard; Note: Pins 1, 2, 4 and 5 can also sink 30mA for direct LED or TRIAC drive.; Published: 26-May-2004; LatestRevisionDate: 13-Apr-2006; LatestRevisionNote: IPC-7351 Footprint Added.; DatasheetVersion: rev2.8, Jul-2001; PackageVersion: Jul-2001; PackageReference: SO20; Publisher: Altium Limited; PackageDescription: 20-Pin Plastic Small Outline Integrated Circuit 1.27 mm Pitch; Code_JEDEC: MS-013-AC; Code_IPC: SOIC127P1030-20; ComponentLink1Description: Manufacturer Link; ComponentLink1URL: http://www.st.com/; ComponentLink2Description: Datasheet; ComponentLink2URL: http://www.st.com/stonline/products/literature/ds/6215/st6253c.pdf
footprint SO20_N (SOIC, 20-Leads, Body 12.8x7.5mm, Pitch 1.27mm, IPC Medium Density)
footprint SO20_L (SOIC, 20-Leads, Body 12.8x7.5mm, Pitch 1.27mm, IPC High Density)
footprint SO20_M (SOIC, 20-Leads, Body 12.8x7.5mm, Pitch 1.27mm, IPC Low Density)
3D model SO20 (20-Pin Plastic Small Outline Integrated Circuit 1.27 mm Pitch)
pins: 1 PB0 (io), 2 PB1 (io), 3 TEST (in), 4 PB2 (io), 5 PB3 (io), 6 PB6/ARTIMin (io), 7 PB7/ARTIMout (io), 8 PA0/Ain (io), 9 VDD (power), 10 VSS (power), 11 PA1/Ain (io), 12 PA2/Ain (io), 13 PA3/Ain (io), 14 OSCin (in), 15 OSCout (out), 16 ~{RESET} (in), 17 NMI (in), 18 PC4/SCK/Ain (io), 19 PC3/Sout/Ain (io), 20 PC2/Sin/Ain (io)

## ST62P53CM3
designator U?
8-Bit FASTROM MCU with A/D Converter, Safe Reset, Auto-Reload Timer, EEPROM and SPI, 20-Pin SOIC, Automotive; Note: Pins 1, 2, 4 and 5 can also sink 30mA for direct LED or TRIAC drive.; Published: 26-May-2004; LatestRevisionDate: 13-Apr-2006; LatestRevisionNote: IPC-7351 Footprint Added.; DatasheetVersion: rev2.8, Jul-2001; PackageVersion: Jul-2001; PackageReference: SO20; Publisher: Altium Limited; PackageDescription: 20-Pin Plastic Small Outline Integrated Circuit 1.27 mm Pitch; Code_JEDEC: MS-013-AC; Code_IPC: SOIC127P1030-20; ComponentLink1Description: Manufacturer Link; ComponentLink1URL: http://www.st.com/; ComponentLink2Description: Datasheet; ComponentLink2URL: http://www.st.com/stonline/products/literature/ds/6215/st6253c.pdf
footprint SO20_N (SOIC, 20-Leads, Body 12.8x7.5mm, Pitch 1.27mm, IPC Medium Density)
footprint SO20_L (SOIC, 20-Leads, Body 12.8x7.5mm, Pitch 1.27mm, IPC High Density)
footprint SO20_M (SOIC, 20-Leads, Body 12.8x7.5mm, Pitch 1.27mm, IPC Low Density)
3D model SO20 (20-Pin Plastic Small Outline Integrated Circuit 1.27 mm Pitch)
pins: 1 PB0 (io), 2 PB1 (io), 3 TEST (in), 4 PB2 (io), 5 PB3 (io), 6 PB6/ARTIMin (io), 7 PB7/ARTIMout (io), 8 PA0/Ain (io), 9 VDD (power), 10 VSS (power), 11 PA1/Ain (io), 12 PA2/Ain (io), 13 PA3/Ain (io), 14 OSCin (in), 15 OSCout (out), 16 ~{RESET} (in), 17 NMI (in), 18 PC4/SCK/Ain (io), 19 PC3/Sout/Ain (io), 20 PC2/Sin/Ain (io)

## ST62P53CM6
designator U?
8-Bit FASTROM MCU with A/D Converter, Safe Reset, Auto-Reload Timer, EEPROM and SPI, 20-Pin SOIC, Industrial; Note: Pins 1, 2, 4 and 5 can also sink 30mA for direct LED or TRIAC drive.; Published: 26-May-2004; LatestRevisionDate: 13-Apr-2006; LatestRevisionNote: IPC-7351 Footprint Added.; DatasheetVersion: rev2.8, Jul-2001; PackageVersion: Jul-2001; PackageReference: SO20; Publisher: Altium Limited; PackageDescription: 20-Pin Plastic Small Outline Integrated Circuit 1.27 mm Pitch; Code_JEDEC: MS-013-AC; Code_IPC: SOIC127P1030-20; ComponentLink1Description: Manufacturer Link; ComponentLink1URL: http://www.st.com/; ComponentLink2Description: Datasheet; ComponentLink2URL: http://www.st.com/stonline/products/literature/ds/6215/st6253c.pdf
footprint SO20_N (SOIC, 20-Leads, Body 12.8x7.5mm, Pitch 1.27mm, IPC Medium Density)
footprint SO20_L (SOIC, 20-Leads, Body 12.8x7.5mm, Pitch 1.27mm, IPC High Density)
footprint SO20_M (SOIC, 20-Leads, Body 12.8x7.5mm, Pitch 1.27mm, IPC Low Density)
3D model SO20 (20-Pin Plastic Small Outline Integrated Circuit 1.27 mm Pitch)
pins: 1 PB0 (io), 2 PB1 (io), 3 TEST (in), 4 PB2 (io), 5 PB3 (io), 6 PB6/ARTIMin (io), 7 PB7/ARTIMout (io), 8 PA0/Ain (io), 9 VDD (power), 10 VSS (power), 11 PA1/Ain (io), 12 PA2/Ain (io), 13 PA3/Ain (io), 14 OSCin (in), 15 OSCout (out), 16 ~{RESET} (in), 17 NMI (in), 18 PC4/SCK/Ain (io), 19 PC3/Sout/Ain (io), 20 PC2/Sin/Ain (io)

## ST62P55CB1
designator U?
8-Bit FASTROM MCU with A/D Converter, Safe Reset, Auto-Reload Timer, EEPROM and SPI, 28-Pin PDIP, Standard; Note: Pins 1, 2 and 4-7 can also sink 30mA for direct LED or TRIAC drive.; Published: 26-May-2004; LatestRevisionDate: 06-Jun-2005; LatestRevisionNote: Stylized 3D Model Added.; DatasheetVersion: rev2.9, Jul-2001; PackageVersion: Oct-2003; PackageReference: DIP28; Publisher: Altium Limited; PackageDescription: DIP; 28 Leads; Row Spacing 15.24 mm; Pitch 2.54 mm; Code_JEDEC: MS-011-AB; ComponentLink1Description: Manufacturer Link; ComponentLink1URL: http://www.st.com/; ComponentLink2Description: Datasheet; ComponentLink2URL: http://www.st.com/stonline/products/literature/ds/6220/st6255c.pdf
footprint DIP28 (DIP; 28 Leads; Row Spacing 15.24 mm; Pitch 2.54 mm)
3D model DIP28 (DIP; 28 Leads; Row Spacing 15.24 mm; Pitch 2.54 mm)
pins: 1 PB0 (io), 2 PB1 (io), 3 TEST (in), 4 PB2 (io), 5 PB3 (io), 6 PB4 (io), 7 PB5 (io), 8 PB6/ARTIMin (io), 9 PB7/ARTIMout (io), 10 PA0/Ain (io), 11 VDD (power), 12 VSS (power), 13 PA1/Ain (io), 14 PA2/Ain (io), 15 PA3/Ain (io), 16 PA4/Ain (io), 17 PA5/Ain (io), 18 PA6/Ain (io), 19 PA7/Ain (io), 20 OSCin (in), 21 OSCout (out), 22 ~{RESET} (in), 23 NMI (in), 24 PC4/SCK/Ain (io), 25 PC3/Sout/Ain (io), 26 PC2/Sin/Ain (io), 27 PC1/TIM1/Ain (io), 28 PC0/Ain (io)

## ST62P55CB3
designator U?
8-Bit FASTROM MCU with A/D Converter, Safe Reset, Auto-Reload Timer, EEPROM and SPI, 28-Pin PDIP, Automotive; Note: Pins 1, 2 and 4-7 can also sink 30mA for direct LED or TRIAC drive.; Published: 26-May-2004; LatestRevisionDate: 06-Jun-2005; LatestRevisionNote: Stylized 3D Model Added.; DatasheetVersion: rev2.9, Jul-2001; PackageVersion: Oct-2003; PackageReference: DIP28; Publisher: Altium Limited; PackageDescription: DIP; 28 Leads; Row Spacing 15.24 mm; Pitch 2.54 mm; Code_JEDEC: MS-011-AB; ComponentLink1Description: Manufacturer Link; ComponentLink1URL: http://www.st.com/; ComponentLink2Description: Datasheet; ComponentLink2URL: http://www.st.com/stonline/products/literature/ds/6220/st6255c.pdf
footprint DIP28 (DIP; 28 Leads; Row Spacing 15.24 mm; Pitch 2.54 mm)
3D model DIP28 (DIP; 28 Leads; Row Spacing 15.24 mm; Pitch 2.54 mm)
pins: 1 PB0 (io), 2 PB1 (io), 3 TEST (in), 4 PB2 (io), 5 PB3 (io), 6 PB4 (io), 7 PB5 (io), 8 PB6/ARTIMin (io), 9 PB7/ARTIMout (io), 10 PA0/Ain (io), 11 VDD (power), 12 VSS (power), 13 PA1/Ain (io), 14 PA2/Ain (io), 15 PA3/Ain (io), 16 PA4/Ain (io), 17 PA5/Ain (io), 18 PA6/Ain (io), 19 PA7/Ain (io), 20 OSCin (in), 21 OSCout (out), 22 ~{RESET} (in), 23 NMI (in), 24 PC4/SCK/Ain (io), 25 PC3/Sout/Ain (io), 26 PC2/Sin/Ain (io), 27 PC1/TIM1/Ain (io), 28 PC0/Ain (io)

## ST62P55CB6
designator U?
8-Bit FASTROM MCU with A/D Converter, Safe Reset, Auto-Reload Timer, EEPROM and SPI, 28-Pin PDIP, Industrial; Note: Pins 1, 2 and 4-7 can also sink 30mA for direct LED or TRIAC drive.; Published: 26-May-2004; LatestRevisionDate: 06-Jun-2005; LatestRevisionNote: Stylized 3D Model Added.; DatasheetVersion: rev2.9, Jul-2001; PackageVersion: Oct-2003; PackageReference: DIP28; Publisher: Altium Limited; PackageDescription: DIP; 28 Leads; Row Spacing 15.24 mm; Pitch 2.54 mm; Code_JEDEC: MS-011-AB; ComponentLink1Description: Manufacturer Link; ComponentLink1URL: http://www.st.com/; ComponentLink2Description: Datasheet; ComponentLink2URL: http://www.st.com/stonline/products/literature/ds/6220/st6255c.pdf
footprint DIP28 (DIP; 28 Leads; Row Spacing 15.24 mm; Pitch 2.54 mm)
3D model DIP28 (DIP; 28 Leads; Row Spacing 15.24 mm; Pitch 2.54 mm)
pins: 1 PB0 (io), 2 PB1 (io), 3 TEST (in), 4 PB2 (io), 5 PB3 (io), 6 PB4 (io), 7 PB5 (io), 8 PB6/ARTIMin (io), 9 PB7/ARTIMout (io), 10 PA0/Ain (io), 11 VDD (power), 12 VSS (power), 13 PA1/Ain (io), 14 PA2/Ain (io), 15 PA3/Ain (io), 16 PA4/Ain (io), 17 PA5/Ain (io), 18 PA6/Ain (io), 19 PA7/Ain (io), 20 OSCin (in), 21 OSCout (out), 22 ~{RESET} (in), 23 NMI (in), 24 PC4/SCK/Ain (io), 25 PC3/Sout/Ain (io), 26 PC2/Sin/Ain (io), 27 PC1/TIM1/Ain (io), 28 PC0/Ain (io)

## ST62P55CM1
designator U?
8-Bit FASTROM MCU with A/D Converter, Safe Reset, Auto-Reload Timer, EEPROM and SPI, 28-Pin SOIC, Standard; Note: Pins 1, 2 and 4-7 can also sink 30mA for direct LED or TRIAC drive.; Published: 26-May-2004; LatestRevisionDate: 13-Apr-2006; LatestRevisionNote: IPC-7351 Footprint Added.; DatasheetVersion: rev2.9, Jul-2001; PackageVersion: Jul-2001; PackageReference: SO28; Publisher: Altium Limited; PackageDescription: 28-Pin Plastic Small Outline Integrated Circuit 1.27 mm Pitch; ComponentLink1Description: Manufacturer Link; ComponentLink1URL: http://www.st.com/; ComponentLink2Description: Datasheet; ComponentLink2URL: http://www.st.com/stonline/products/literature/ds/6220/st6255c.pdf
footprint SO28_N (SOIC, 28-Leads, Body 17.9x7.5mm, Pitch 1.27mm, IPC Medium Density)
footprint SO28_L (SOIC, 28-Leads, Body 17.9x7.5mm, Pitch 1.27mm, IPC High Density)
footprint SO28_M (SOIC, 28-Leads, Body 17.9x7.5mm, Pitch 1.27mm, IPC Low Density)
3D model SO28 (28-Pin Plastic Small Outline Integrated Circuit 1.27 mm Pitch)
pins: 1 PB0 (io), 2 PB1 (io), 3 TEST (in), 4 PB2 (io), 5 PB3 (io), 6 PB4 (io), 7 PB5 (io), 8 PB6/ARTIMin (io), 9 PB7/ARTIMout (io), 10 PA0/Ain (io), 11 VDD (power), 12 VSS (power), 13 PA1/Ain (io), 14 PA2/Ain (io), 15 PA3/Ain (io), 16 PA4/Ain (io), 17 PA5/Ain (io), 18 PA6/Ain (io), 19 PA7/Ain (io), 20 OSCin (in), 21 OSCout (out), 22 ~{RESET} (in), 23 NMI (in), 24 PC4/SCK/Ain (io), 25 PC3/Sout/Ain (io), 26 PC2/Sin/Ain (io), 27 PC1/TIM1/Ain (io), 28 PC0/Ain (io)

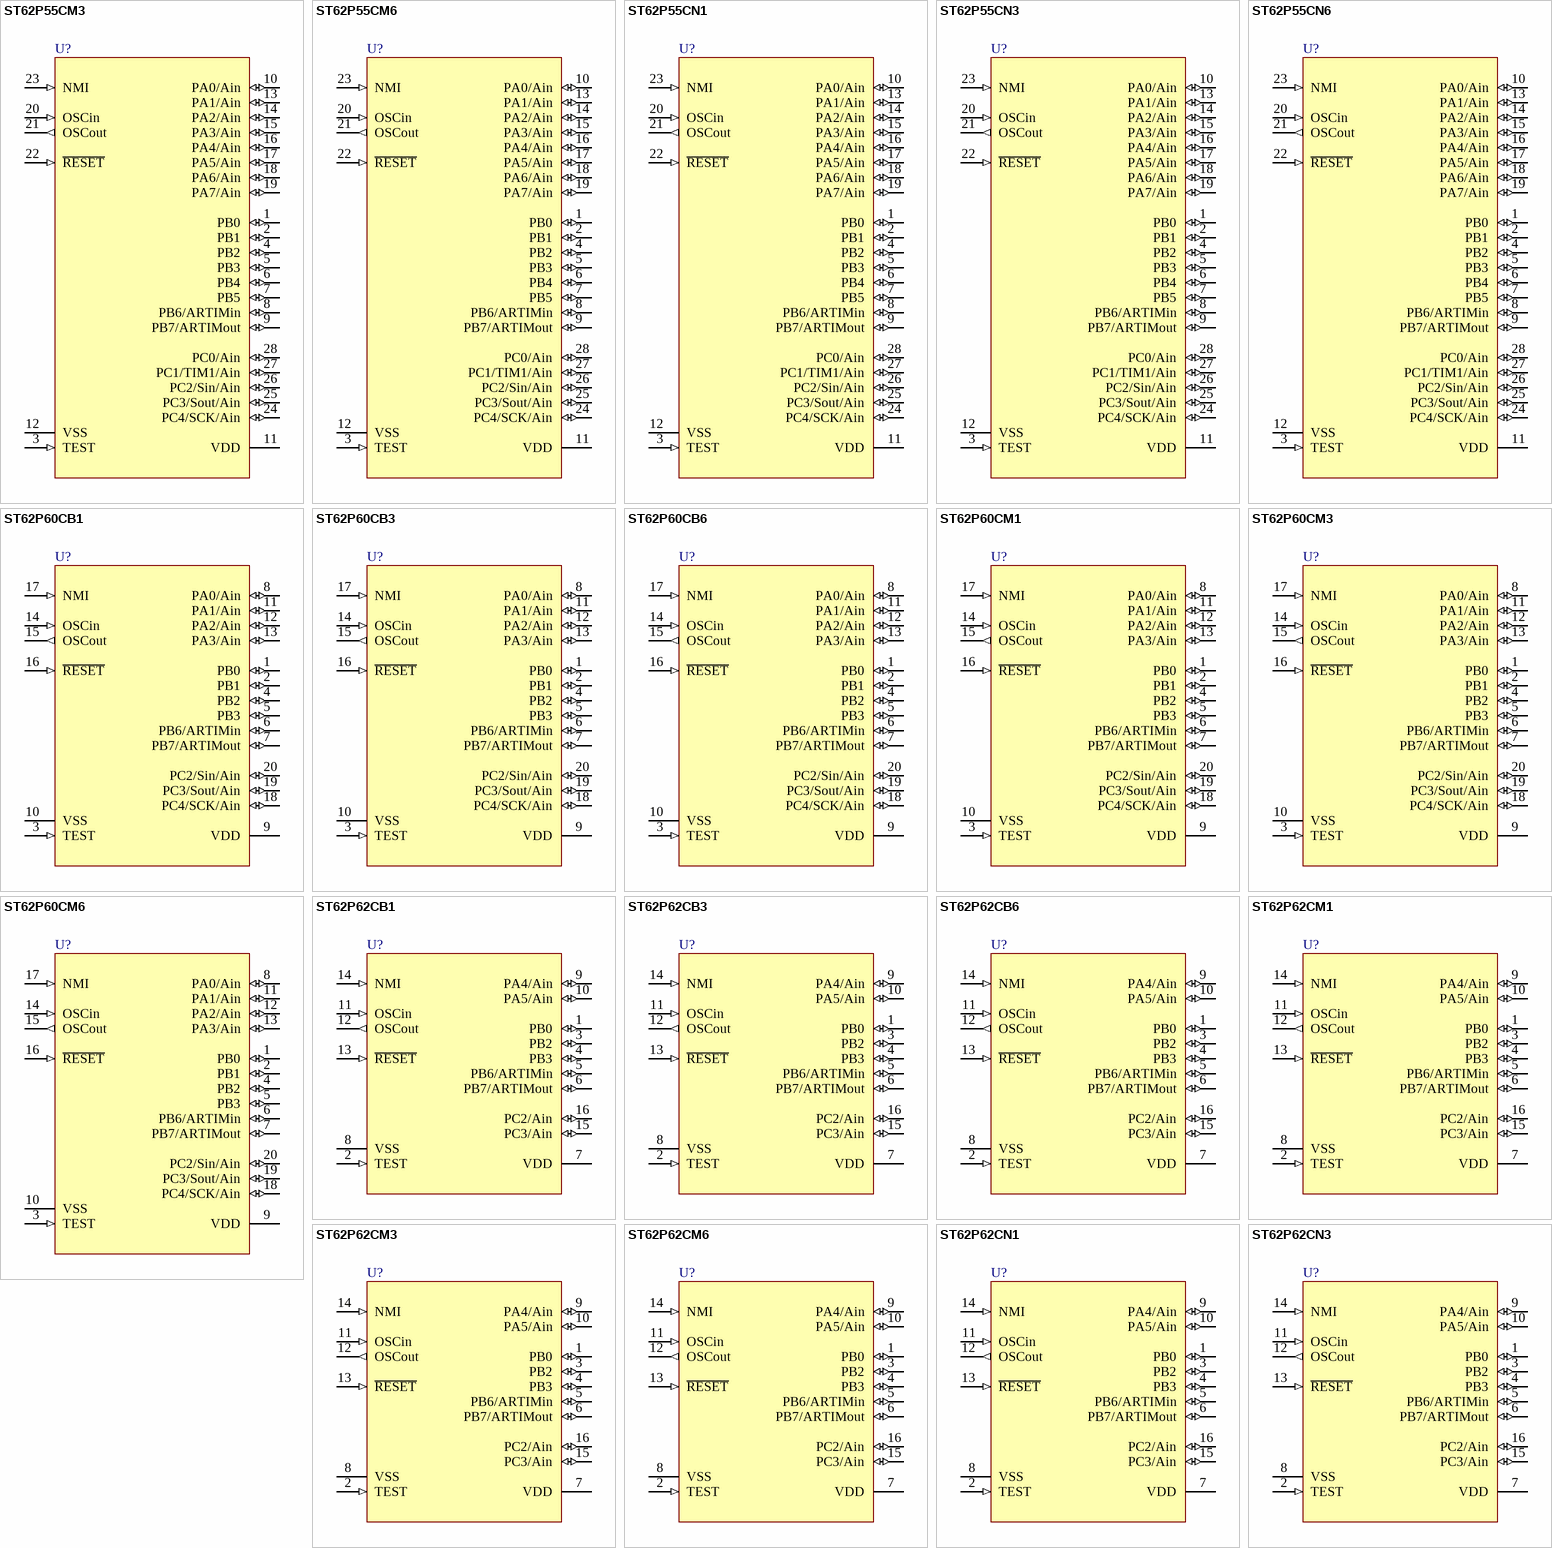
[diagram p11: symbols ST62P55CM3 to ST62P62CN3]